# EAGLE library part 61002011921 (library Wuerth_Elektronik_eiCan_Pin_&_Socked_Headers_v1.3)
WR-PHD 2.54mm SMT Socket Header, 20 Pins
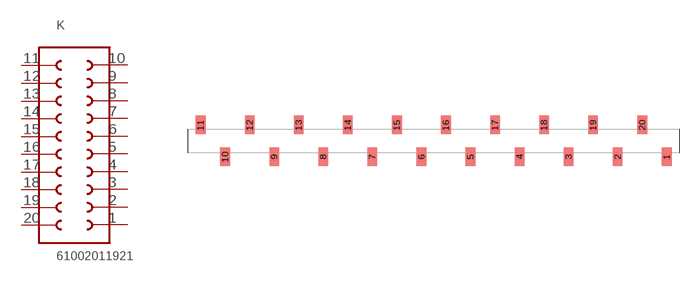
[diagram p238: symbol with the pads of 61002011921; footprint 61002011921]

Designator prefix K

## 61002011921  [61002011921]
1  11  pas
2  12  pas
3  13  pas
4  14  pas
5  15  pas
6  16  pas
7  17  pas
8  18  pas
9  19  pas
10  20  pas
11  1  pas
12  2  pas
13  3  pas
14  4  pas
15  5  pas
16  6  pas
17  7  pas
18  8  pas
19  9  pas
20  10  pas

## Footprint 61002011921 (pad centres in mm)
WR-PHD 2.54mm SMT Socket Header, 20 Pins
smd 1 x 1.91: 1 24.13,-1.645; 2 19.05,-1.645; 3 13.97,-1.645; 4 8.89,-1.645; 5 3.81,-1.645; 6 -1.27,-1.645; 7 -6.35,-1.645; 8 -11.43,-1.645; 9 -16.51,-1.645; 10 -21.59,-1.645; 11 -24.13,1.645; 12 -19.05,1.645; 13 -13.97,1.645; 14 -8.89,1.645; 15 -3.81,1.645; 16 1.27,1.645; 17 6.35,1.645; 18 11.43,1.645; 19 16.51,1.645; 20 21.59,1.645